# Altium integrated library LL4148.IntLib: 1 symbol
Pins are listed as number, name and electrical type; pins without a type are passive.

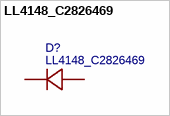
[diagram p0: symbol LL4148_C2826469]

## LL4148_C2826469
designator D?
BOM_Manufacturer: Slkor(萨科微); BOM_Manufacturer Part: LL4148; Contributor: LCSC; BOM_Supplier: LCSC; BOM_Supplier Part: C2826469; BOM_JLCPCB Part Class: Extended Part; spicePre: D; spiceSymbolName: LL4148_C2826469
footprint LL-34_L3.5-W1.5-RD
pins: 1 K, 2 A